# EAGLE library part LM2904 (library dviid)
Low power dual operational amplifier.
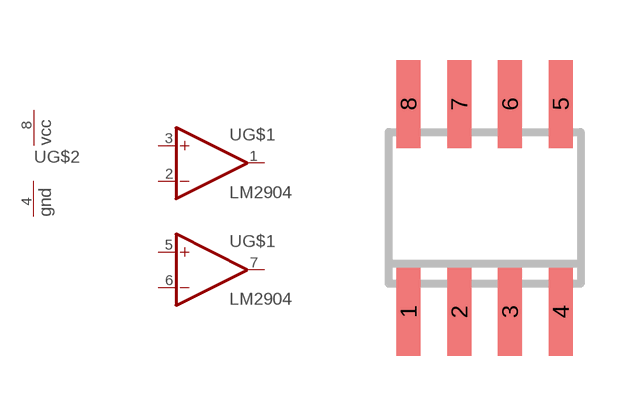
[diagram p18: symbol with the pads of SOIC8; footprint SOIC8]

Designator prefix -; gates G$1=DUAL-OPAMP+- G$2=PWR+GND

## LM2904D  [SOIC8]
1  G$1:OUTA  out
2  G$1:-INA  in
3  G$1:+INA  in
4  G$2:GND  pwr
5  G$1:+INB  in
6  G$1:-INB  in
7  G$1:OUTB  out
8  G$2:VCC  pwr

## Footprint SOIC8 (pad centres in mm)
smd 0.6 x 2.2: 1 -1.905,-2.6; 2 -0.635,-2.6; 3 0.635,-2.6; 4 1.905,-2.6; 5 1.905,2.6; 6 0.635,2.6; 7 -0.635,2.6; 8 -1.905,2.6